# EAGLE library part TPS740 (library texas-instruments)
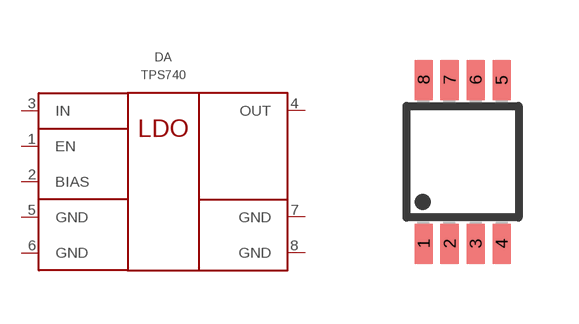
[diagram p8: symbol with the pads of MSOP8; footprint MSOP8]

Designator prefix DA

## TPS74012DGKR  [MSOP8]
1  EN  in
2  BIAS  in
3  IN  pwr
4  OUT  pwr
5  GND  pwr
6  GND  pwr
7  GND  pwr
8  GND  pwr

## TPS74012DGKT  [MSOP8]
Pads as for MSOP8

## Footprint MSOP8 (pad centres in mm)
Micro Small Outline Package Grid .65mm
smd 0.45 x 1: 1 -0.975,-2.05; 2 -0.325,-2.05; 3 0.325,-2.05; 4 0.975,-2.05; 5 0.975,2.05; 6 0.325,2.05; 7 -0.325,2.05; 8 -0.975,2.05